# Altium footprint library Connectors_DB.PcbLib: 2 footprints
Each footprint in its own frame and in the unit in brackets; x right, y up, seen from the top. Pads: shape width x height; smd on the part's side, far side on the other; paste and mask are expansions set on the pad; w line width, h text height; cw(c..) or ccw(c..) is an arc to the next point about the centre after c.
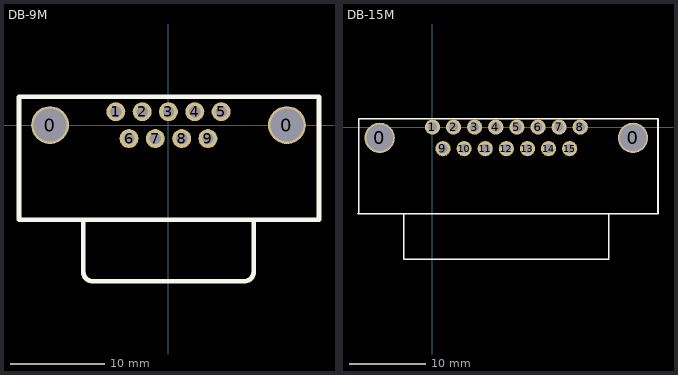
[diagram p0: the footprints below, top view; thin cyan lines are the x and y axes]

## DB-9M [mm]
pads (11):
  round 4 hole 3.5: 0(-12.51,0) 0(12.51,0)
  round 2 hole 1.2: 1(-5.56,1.42) 2(-2.78,1.42) 3(0,1.42) 4(2.78,1.42) 5(5.56,1.42) 6(-4.17,-1.42) 7(-1.39,-1.42) 8(1.39,-1.42) 9(4.17,-1.42)
Top Overlay:
  lines w0.508: -9,-10 -9,-15.5 ccw(c-8,-15.5) -8,-16.5 8,-16.5 ccw(c8,-15.5) 9,-15.5 9,-10 ; 15.89,3 15.89,-10 -15.79,-10 -15.79,3 15.9,3
3D body "SW3dPS-Connector DB-9-m PCB.STEP": height 12.42, standoff 0, extent -15.5,-16.536 15.6,2.75

## DB-15M [mm]
pads (17):
  round 4 hole 3.5: 0(-6.95,-1.42) 0(26.41,-1.42)
  round 2 hole 1.2: 1(0,0) 2(2.78,0) 3(5.56,0) 4(8.34,0) 5(11.12,0) 6(13.9,0) 7(16.68,0) 8(19.46,0) 9(1.39,-2.84) 10(4.17,-2.84) 11(6.95,-2.84) 12(9.73,-2.84) 13(12.51,-2.84) 14(15.29,-2.84) 15(18.07,-2.84)
Top Overlay:
  lines w0.2: -9.8,-11.4 29.7,-11.4 29.7,1.1 -9.7,1.1 -9.7,-11.4 ; -3.8,-11.4 -3.8,-17.4 23.2,-17.4 23.2,-11.4
3D body "SW3dPS-DB-15-f.STEP": height 12.42, standoff 0, extent -9.72,-17.94 29.7,1.05